# EAGLE library part SN74AVCH4T245RSVR (library EagleLibrary)
4x Level Shifter
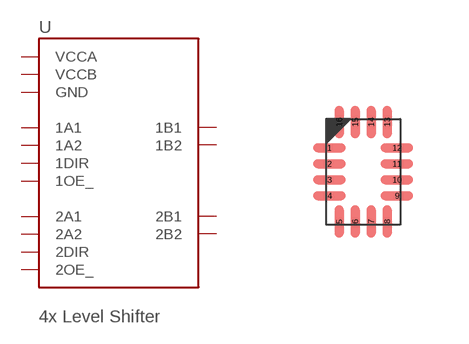
[diagram p20: symbol with the pads of SN74AVCH4T245RSVR; footprint SN74AVCH4T245RSVR]

Designator prefix U

## SN74AVCH4T245RSVR (MFG: Texas Instruments; PN: SN74AVCH4T245RSVR)  [SN74AVCH4T245RSVR]
1  1OE_
2  VCCB
3  VCCA
4  1DIR
5  2DIR
6  1A1
7  1A2
8  2A1
9  2A2
10  GND
11  GND
12  2B2
13  2B1
14  1B2
15  1B1
16  2OE_

## Footprint SN74AVCH4T245RSVR (pad centres in mm)
16-QFN, 0.40 mm pitch, 2.60 X 1.80 X 0.55 mm body 16-pin QFN package with 0.40 mm pitch with body size 2.60 X 1.80 X 0.55 mm
smd 0.81 x 0.22: 1 -0.845,0.6; 2 -0.845,0.2; 3 -0.845,-0.2; 4 -0.845,-0.6; 9 0.845,-0.6; 10 0.845,-0.2; 11 0.845,0.2; 12 0.845,0.6
smd 0.22 x 0.81: 5 -0.6,-1.245; 6 -0.2,-1.245; 7 0.2,-1.245; 8 0.6,-1.245; 13 0.6,1.245; 14 0.2,1.245; 15 -0.2,1.245; 16 -0.6,1.245